# EAGLE library part PIC18F1220 (library omcPIC)
PIC18F1220 - 18-Pin High-Performance, Enhanced Flash MCUs with 10-bit A/D and nanoWatt Technologys Low-Power Features: Power Managed modes: Run: CPU on, peripherals on Idle: CPU off, peripherals on Sleep: CPU off, peripherals off Power Consumption modes: PRI_RUN: 150 μA, 1 MHz, 2V PRI_IDLE: 37 μA, 1 MHz, 2V SEC_RUN: 14 μA, 32 kHz, 2V SEC_IDLE: 5.8 μA, 32 kHz, 2V RC_RUN: 110 μA, 1 MHz, 2V RC_IDLE: 52 μA, 1 MHz, 2V Sleep: 0.1 μA, 1 MHz, 2V Timer1 Oscillator: 1.1 μA, 32 kHz, 2V Watchdog Timer: 2.1 μA Two-Speed Oscillator Start-up Oscillators: Four Crystal modes: LP, XT, HS: up to 25 MHz HSPLL: 4-10 MHz (16-40 MHz internal) Two External RC modes, up to 4 MHz Two External Clock modes, up to 40 MHz Internal oscillator block: 8 user-selectable frequencies: 31 kHz, 125 kHz, 250 kHz, 500 kHz, 1 MHz, 2 MHz, 4 MHz, 8 MHz 125 kHz to 8 MHz calibrated to 1% Two modes select one or two I/O pins OSCTUNE – Allows user to shift frequency Secondary oscillator using Timer1 @ 32 kHz Fail-Safe Clock Monitor Allows for safe shutdown if peripheral clock stops Peripheral Highlights: Four Crystal modes: High current sink/source 25 mA/25 mA Three external interrupts Enhanced Capture/Compare/PWM (ECCP) module: One, two or four PWM outputs Selectable polarity Programmable dead time Auto-Shutdown and Auto-Restart Capture is 16-bit, max resolution 6.25 ns (TCY/16) Compare is 16-bit, max resolution 100 ns (TCY) Compatible 10-bit, up to 13-channel Analog-to-Digital Converter module (A/D) with programmable acquisition time Enhanced USART module: Supports RS-485, RS-232 and LIN 1.2 Auto-Wake-up on Start bit Auto-Baud Detect Special Microcontroller Features: 100,000 erase/write cycle Enhanced Flash program memory typical 1,000,000 erase/write cycle Data EEPROM memory typical Flash/Data EEPROM Retention: > 40 years Self-programmable under software control Priority levels for interrupts 8 x 8 Single-Cycle Hardware Multiplier Extended Watchdog Timer (WDT): Programmable period from 41 ms to 131s 2% stability over VDD and Temperature Single-supply 5V In-Circuit Serial Programming™ (ICSP™) via two pins In-Circuit Debug (ICD) via two pins Wide operating voltage range: 2.0V to 5.5V Datasheet: Microchip <http://ww1.microchip.com/downloads/en/DeviceDoc/30009605G.pdf> Reichelt <https://cdn-reichelt.de/documents/datenblatt/A300/PIC18F1220_1320%23MIC.pdf>
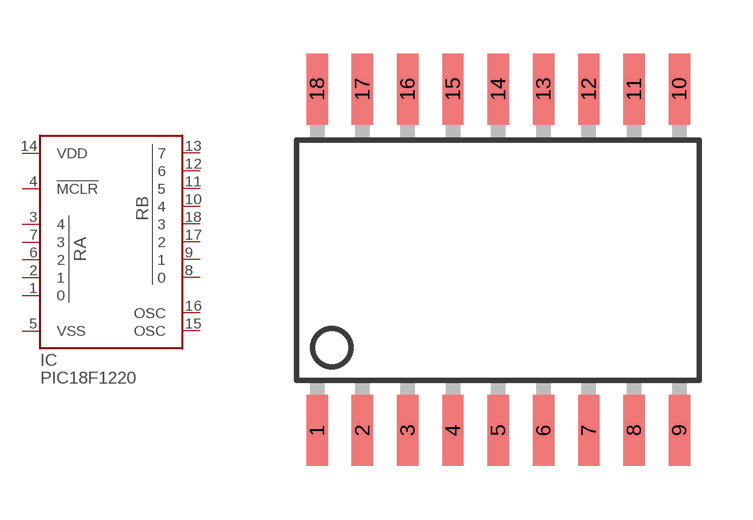
[diagram p2: symbol with the pads of SOIC18W; footprint SOIC18W]

Designator prefix IC

## PIC18F1220-I/SO (DIST#REICHELT#: PIC 18F1220-I/SO; VALUE: PIC18F1220-I; VENDOR#: Microchip, PIC18F1220-I/SO)  [SOIC18W]
1  0
2  1
3  4
4  !MCLR  in
5  VSS  pwr
6  2
7  3
8  0
9  1
10  4
11  5
12  6
13  7
14  VDD  pwr
15  OSC
16  OSC
17  2
18  3

## Footprint SOIC18W (pad centres in mm)
SOIC18W SMD 300-mil 11.5mm×10.3mm SOIC18W, P171 <http://ww1.microchip.com/downloads/en/PackagingSpec/00000049BN%20.pdf>
smd 0.6 x 2: 1 1.27,1.245; 2 2.54,1.245; 3 3.81,1.245; 4 5.08,1.245; 5 6.35,1.245; 6 7.62,1.245; 7 8.89,1.245; 8 10.16,1.245; 9 11.43,1.245; 10 11.43,10.82; 11 10.16,10.82; 12 8.89,10.82; 13 7.62,10.82; 14 6.35,10.82; 15 5.08,10.82; 16 3.81,10.82; 17 2.54,10.82; 18 1.27,10.82